# Altium footprint library PcbLib.PcbLib: 5 footprints
Each footprint in its own frame and in the unit in brackets; x right, y up, seen from the top. Pads: shape width x height; smd on the part's side, far side on the other; paste and mask are expansions set on the pad; w line width, h text height; cw(c..) or ccw(c..) is an arc to the next point about the centre after c.
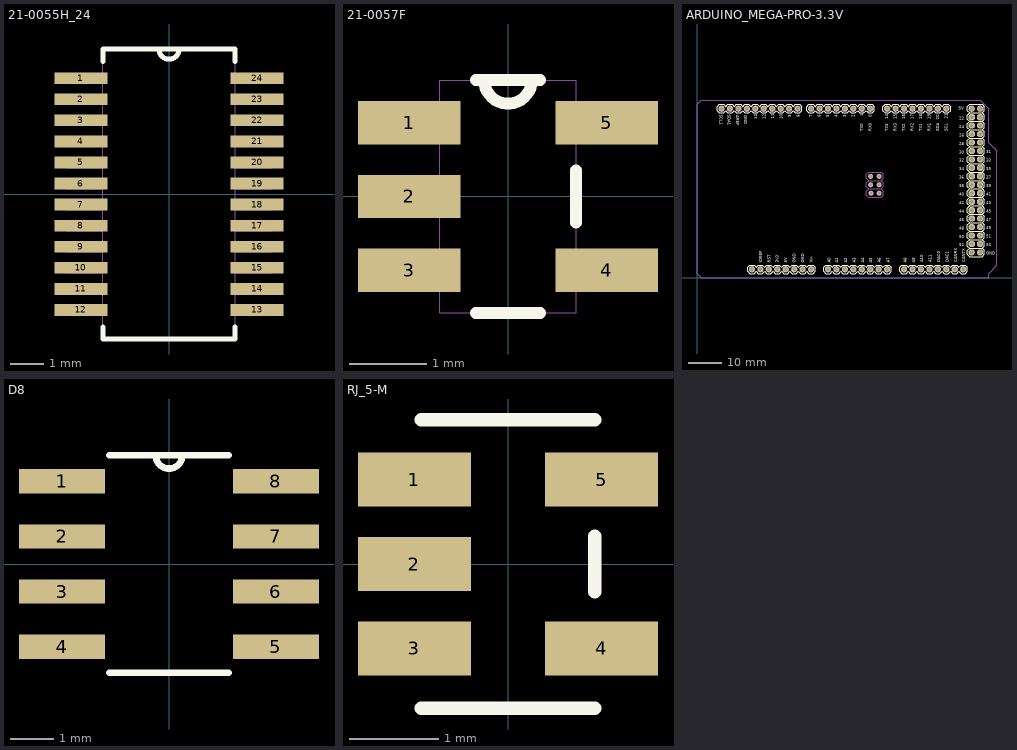
[diagram p0: the footprints below, top view; thin cyan lines are the x and y axes]

## 21-0055H_24 [mil]
pads (24):
  rect 63x14 smd: 1(-104.5,137.5) 2(-104.5,112.5) 3(-104.5,87.5) 4(-104.5,62.5) 5(-104.5,37.5) 6(-104.5,12.5) 7(-104.5,-12.5) 8(-104.5,-37.5) 9(-104.5,-62.5) 10(-104.5,-87.5) 11(-104.5,-112.5) 12(-104.5,-137.5) 13(104.5,-137.5) 14(104.5,-112.5) 15(104.5,-87.5) 16(104.5,-62.5) 17(104.5,-37.5) 18(104.5,-12.5) 19(104.5,12.5) 20(104.5,37.5) 21(104.5,62.5) 22(104.5,87.5) 23(104.5,112.5) 24(104.5,137.5)
Top Overlay:
  lines w6: -78.5,-157.6 -78.5,-172 78.5,-172 78.5,-157.6 ; -78.5,157.6 -78.5,172 78.5,172 78.5,157.6 ; -12,172 ccw(c0,172) 12,172
Mechanical 1:
  lines w0: -12,172 ccw(c0,172) 12,172 ; -122,-143.5 -78.5,-143.5 -78.5,-131.5 -122,-131.5 -122,-143.5 ; -122,-118.5 -78.5,-118.5 -78.5,-106.5 -122,-106.5 -122,-118.5 ; -122,-93.5 -78.5,-93.5 -78.5,-81.5 -122,-81.5 -122,-93.5 ; -122,-68.5 -78.5,-68.5 -78.5,-56.5 -122,-56.5 -122,-68.5 ; -122,-43.5 -78.5,-43.5 -78.5,-31.5 -122,-31.5 -122,-43.5 ; -122,-18.5 -78.5,-18.5 -78.5,-6.5 -122,-6.5 -122,-18.5 ; -122,6.5 -78.5,6.5 -78.5,18.5 -122,18.5 -122,6.5 ; -122,31.5 -78.5,31.5 -78.5,43.5 -122,43.5 -122,31.5 ; -122,56.5 -78.5,56.5 -78.5,68.5 -122,68.5 -122,56.5 ; -122,81.5 -78.5,81.5 -78.5,93.5 -122,93.5 -122,81.5 ; -122,106.5 -78.5,106.5 -78.5,118.5 -122,118.5 -122,106.5 ; -122,131.5 -78.5,131.5 -78.5,143.5 -122,143.5 -122,131.5 ; -78.5,-172 -78.5,172 78.5,172 78.5,-172 -78.5,-172 ; 78.5,-143.5 122,-143.5 122,-131.5 78.5,-131.5 78.5,-143.5 ; 78.5,-118.5 122,-118.5 122,-106.5 78.5,-106.5 78.5,-118.5 ; 78.5,-93.5 122,-93.5 122,-81.5 78.5,-81.5 78.5,-93.5 ; 78.5,-68.5 122,-68.5 122,-56.5 78.5,-56.5 78.5,-68.5 ; 78.5,-43.5 122,-43.5 122,-31.5 78.5,-31.5 78.5,-43.5 ; 78.5,-18.5 122,-18.5 122,-6.5 78.5,-6.5 78.5,-18.5 ; 78.5,6.5 122,6.5 122,18.5 78.5,18.5 78.5,6.5 ; 78.5,31.5 122,31.5 122,43.5 78.5,43.5 78.5,31.5 ; 78.5,56.5 122,56.5 122,68.5 78.5,68.5 78.5,56.5 ; 78.5,81.5 122,81.5 122,93.5 78.5,93.5 78.5,81.5 ; 78.5,106.5 122,106.5 122,118.5 78.5,118.5 78.5,106.5 ; 78.5,131.5 122,131.5 122,143.5 78.5,143.5 78.5,131.5
3D body: height 68.9, standoff 0, extent -119.21,-172 119.21,172.1

## 21-0057F [mil]
pads (5):
  rect 52x22 smd: 1(-50,37.4) 2(-50,0) 3(-50,-37.4) 4(50,-37.4) 5(50,37.4)
Top Overlay:
  lines w6: -16.3,-59 16.3,-59 ; -16.3,59 16.3,59 ; -12,59 ccw(c0,59) 12,59 ; 34.5,-13.3 34.5,13.3
Mechanical 1:
  lines w0: -12,59 ccw(c0,59) 12,59 ; -59,-47.4 -34.5,-47.4 -34.5,-27.4 -59,-27.4 -59,-47.4 ; -59,-10 -34.5,-10 -34.5,10 -59,10 -59,-10 ; -59,27.4 -34.5,27.4 -34.5,47.4 -59,47.4 -59,27.4 ; -34.5,-59 -34.5,59 34.5,59 34.5,-59 -34.5,-59 ; 34.5,-47.4 59,-47.4 59,-27.4 34.5,-27.4 34.5,-47.4 ; 34.5,27.4 59,27.4 59,47.4 34.5,47.4 34.5,27.4
3D body: height 57.09, standoff 0, extent -55.11,-57.09 55.12,57.09

## ARDUINO_MEGA-PRO-3.3V [mil]
pads (92):
  round 74 hole 40: 0(2050,2000) 1(1950,2000) 2(1850,2000) 3(1750,2000) 3.3V(950,100) 4(1650,2000) 5(1550,2000) 5V@0(1050,100) 5V@1(3250,2000) 5V@2(3350,2000) 6(1450,2000) 7(1350,2000) 8(1190,2000) 9(1090,2000) 10(990,2000) 11(890,2000) 12(790,2000) 13(690,2000) 14(2250,2000) 15(2350,2000) 16(2450,2000) 17(2550,2000) 18(2650,2000) 19(2750,2000) 20(2850,2000) 21(2950,2000) A0(1550,100) A1(1650,100) A2(1750,100) A3(1850,100) A4(1950,100) A5(2050,100) A6(2150,100) A7(2250,100) A8(2450,100) A9(2550,100) A10(2650,100) A11(2750,100) A12(2850,100) A13(2950,100) A14(3050,100) A15(3150,100) AREF(490,2000) GND@0(1150,100) GND@1(1250,100) GND@2(3250,300) GND@3(3350,300) GND@4(590,2000) IOREF(750,100) RESET(850,100) SCL1(290,2000) SDA1(390,2000) VIN(1350,100) ""(650,100)
  round 60 hole 30: 5V@3(2155,1200) GND@5(2155,1000) MISO(2055,1200) MOSI(2155,1100) RST(2060,1000) SCLK(2055,1100)
  oct 74x74 hole 40: 22(3250,1900) 23(3350,1900) 24(3250,1800) 25(3350,1800) 26(3250,1700) 27(3350,1700) 28(3250,1600) 29(3350,1600) 30(3250,1500) 31(3350,1500) 32(3250,1400) 33(3350,1400) 34(3250,1300) 35(3350,1300) 36(3250,1200) 37(3350,1200) 38(3250,1100) 39(3350,1100) 40(3250,1000) 41(3350,1000) 42(3250,900) 43(3350,900) 44(3250,800) 45(3350,800) 46(3250,700) 47(3350,700) 48(3250,600) 49(3350,600) 50(3250,500) 51(3350,500) 52(3250,400) 53(3350,400)
Top Overlay:
  drawing of 439 lines, arcs and shapes, not listed
  text "IOREF" at 770,180 h35
  text "5V" at 3100,1985 h35
  text "AREF" at 465,1925 h35
  text "GND" at 560,1925 h35
  text "Vin" at 1370,180 h35
  text "GND" at 1270,180 h35
  text "GND" at 1170,180 h35
  text "5V" at 1070,180 h35
  text "3V3" at 970,180 h35
  text "RST" at 870,180 h35
  text "SCL" at 2965,1735 h34
  text "SDA" at 2865,1735 h34
  text "RX1" at 2765,1735 h34
  text "TX1" at 2665,1735 h34
  text "RX2" at 2565,1735 h34
  text "TX2" at 2465,1735 h34
  text "RX3" at 2365,1735 h34
  text "TX3" at 2265,1735 h34
  text "RX0" at 2065,1735 h34
  text "TX0" at 1965,1735 h34
  text "GND" at 3424.1,271 h34
  text "CANTX" at 3175,181 h35
  text "CANRX" at 3080,181 h35
  text "DAC1" at 2980,181 h35
  text "DAC0" at 2880,181 h35
  text "A11" at 2780,181 h35
  text "A10" at 2680,181 h35
  text "A9" at 2580,180 h35
  text "A8" at 2480,180 h35
  text "A7" at 2280,180 h35
  text "A6" at 2175,180 h35
  text "A5" at 2075,180 h35
  text "A4" at 1980,180 h35
  text "A3" at 1880,180 h35
  text "A2" at 1780,180 h35
  text "A1" at 1670,180 h35
  text "A0" at 1580,180 h35
  text "53" at 3425,371 h35
  text "51" at 3425,471 h35
  text "49" at 3425,571 h35
  text "47" at 3425,671 h35
  text "45" at 3425,771 h35
  text "43" at 3425,871 h35
  text "41" at 3425,971 h35
  text "39" at 3425,1071 h35
  text "37" at 3425,1171 h35
  text "35" at 3425,1271 h35
  text "33" at 3425,1371 h35
  text "31" at 3425,1471 h35
  text "52" at 3106,370 h35
  text "48" at 3106,570 h35
  text "50" at 3106,470 h35
  text "46" at 3106,670 h35
  text "44" at 3106,770 h35
  text "42" at 3106,870 h35
  text "40" at 3106,970 h35
  text "38" at 3106,1070 h35
  text "36" at 3106,1170 h35
  text "34" at 3106,1270 h35
  text "32" at 3106,1370 h35
  text "30" at 3106,1470 h35
  text "28" at 3106,1570 h35
  text "26" at 3106,1670 h35
  text "24" at 3106,1770 h35
  text "22" at 3106,1870 h35
  text "21" at 2965,1878.35 h35
  text "20" at 2865,1866.69 h35
  text "19" at 2765,1872.52 h35
  text "18" at 2665,1872.52 h35
  text "17" at 2565,1872.52 h35
  text "16" at 2465,1872.52 h35
  text "15" at 2365,1872.52 h35
  text "14" at 2265,1872.52 h35
  text "13" at 715,1872.52 h35
  text "12" at 815,1872.52 h35
  text "11" at 915,1884.18 h35
  text "10" at 1015,1872.52 h35
  text "9" at 1115,1901.67 h35
  text "8" at 1215,1901.67 h35
  text "7" at 1365,1901.67 h35
  text "6" at 1465,1901.67 h35
  text "5" at 1565,1901.67 h35
  text "4" at 1665,1901.67 h35
  text "3" at 1765,1901.67 h35
  text "2" at 1865,1901.67 h35
  text "1" at 1965,1913.34 h35
  text "0" at 2065,1901.67 h35
  text "SDA1" at 365,1930 h35
  text "SCL1" at 270,1930 h35
Mechanical 16:
  rectangle: 840,90 860,110
  rectangle: 940,90 960,110
  rectangle: 1040,90 1060,110
  rectangle: 1140,90 1160,110
  rectangle: 1240,90 1260,110
  rectangle: 1340,90 1360,110
  rectangle: 3240,1990 3260,2010
  rectangle: 3340,1990 3360,2010
  rectangle: 3240,290 3260,310
  rectangle: 3340,290 3360,310
  region: 3360,1090 3360,1110 3340,1110 3340,1090
  region: 3260,1090 3260,1110 3240,1110 3240,1090
  region: 3360,990 3360,1010 3340,1010 3340,990
  region: 3260,990 3260,1010 3240,1010 3240,990
  region: 3360,890 3360,910 3340,910 3340,890
  region: 3360,790 3360,810 3340,810 3340,790
  region: 3360,690 3360,710 3340,710 3340,690
  region: 3260,890 3260,910 3240,910 3240,890
  region: 3260,790 3260,810 3240,810 3240,790
  region: 3260,690 3260,710 3240,710 3240,690
  region: 3360,590 3360,610 3340,610 3340,590
  region: 3260,590 3260,610 3240,610 3240,590
  region: 3360,490 3360,510 3340,510 3340,490
  region: 3260,490 3260,510 3240,510 3240,490
  region: 3260,390 3260,410 3240,410 3240,390
  region: 3360,390 3360,410 3340,410 3340,390
  region: 3360,1890 3360,1910 3340,1910 3340,1890
  region: 3260,1890 3260,1910 3240,1910 3240,1890
  region: 3360,1790 3360,1810 3340,1810 3340,1790
  region: 3260,1790 3260,1810 3240,1810 3240,1790
  region: 3360,1690 3360,1710 3340,1710 3340,1690
  region: 3360,1590 3360,1610 3340,1610 3340,1590
  region: 3360,1490 3360,1510 3340,1510 3340,1490
  region: 3260,1690 3260,1710 3240,1710 3240,1690
  region: 3260,1590 3260,1610 3240,1610 3240,1590
  region: 3260,1490 3260,1510 3240,1510 3240,1490
  region: 3360,1390 3360,1410 3340,1410 3340,1390
  region: 3260,1390 3260,1410 3240,1410 3240,1390
  region: 3360,1290 3360,1310 3340,1310 3340,1290
  region: 3260,1290 3260,1310 3240,1310 3240,1290
  region: 3260,1190 3260,1210 3240,1210 3240,1190
  region: 3360,1190 3360,1210 3340,1210 3340,1190
  region: 2045,1010 2045,990 2065,990 2065,1010
  region: 2145,1010 2145,990 2165,990 2165,1010
  region: 2045,1110 2045,1090 2065,1090 2065,1110
  region: 2145,1110 2145,1090 2165,1090 2165,1110
  region: 2145,1210 2145,1190 2165,1190 2165,1210
  region: 2045,1210 2045,1190 2065,1190 2065,1210
  rectangle: 1180,1990 1200,2010
  rectangle: 480,1990 500,2010
  rectangle: 580,1990 600,2010
  rectangle: 680,1990 700,2010
  rectangle: 780,1990 800,2010
  rectangle: 880,1990 900,2010
  rectangle: 980,1990 1000,2010
  rectangle: 1080,1990 1100,2010
  rectangle: 2040,1990 2060,2010
  rectangle: 1340,1990 1360,2010
  rectangle: 1440,1990 1460,2010
  rectangle: 1540,1990 1560,2010
  rectangle: 1640,1990 1660,2010
  rectangle: 1740,1990 1760,2010
  rectangle: 1840,1990 1860,2010
  rectangle: 1940,1990 1960,2010
  rectangle: 2240,90 2260,110
  rectangle: 1540,90 1560,110
  rectangle: 1640,90 1660,110
  rectangle: 1740,90 1760,110
  rectangle: 1840,90 1860,110
  rectangle: 1940,90 1960,110
  rectangle: 2040,90 2060,110
  rectangle: 2140,90 2160,110
  rectangle: 2940,1990 2960,2010
  rectangle: 2240,1990 2260,2010
  rectangle: 2340,1990 2360,2010
  rectangle: 2440,1990 2460,2010
  rectangle: 2540,1990 2560,2010
  rectangle: 2640,1990 2660,2010
  rectangle: 2740,1990 2760,2010
  rectangle: 2840,1990 2860,2010
  rectangle: 3140,90 3160,110
  rectangle: 2440,90 2460,110
  rectangle: 2540,90 2560,110
  rectangle: 2640,90 2660,110
  rectangle: 2740,90 2760,110
  rectangle: 2840,90 2860,110
  rectangle: 2940,90 2960,110
  rectangle: 3040,90 3060,110
  lines w8: 2030,1050 2180,1050 ; 2030,1050 2005,1025 2005,975 2030,950 2180,950 2205,975 2205,1025 2180,1050 ; 2030,1050 2005,1075 2005,1125 2030,1150 ; 2030,1150 2180,1150 ; 2030,1150 2005,1175 2005,1225 2030,1250 2180,1250 2205,1225 2205,1175 2180,1150 ; 2180,1050 2205,1075 2205,1125 2180,1150 ; 0,50 0,2050 50,2100 3350,2100 3450,2000 3450,1600 3550,1500 3550,150 3450,50 3450,0 50,0 0,50
3D body: height 107.98, standoff -352.65, extent 2008.15,945 2205,1254.84
3D body: height 97.39, standoff -381, extent 2400.01,50.01 3200.01,150.01
3D body: height 97.39, standoff -381, extent 1500,50 2300,150
3D body: height 97.39, standoff -381, extent 1300,1950 2100,2050
3D body: height 97.39, standoff -381, extent 2200,1950 3000,2050
3D body: height 98.23, standoff -380.12, extent 3200,250 3400,2050
3D body: height 97.39, standoff -381, extent 240.01,1950.01 1240.01,2050.01
3D body: height 97.39, standoff -381, extent 600,50 1400,150

## D8 [mil]
pads (8):
  rect 78x22 smd: 1(-97,75) 2(-97,25) 3(-97,-25) 4(-97,-75) 5(97,-75) 6(97,-25) 7(97,25) 8(97,75)
Top Overlay:
  lines w6: -54.08,-98.5 54.08,-98.5 ; -54.08,98.5 54.08,98.5 ; -12,98.5 ccw(c0,98.5) 12,98.5
3D body: height 57, standoff 0, extent -110,-96.5 117.49,96.5

## RJ_5-M [mil]
pads (5):
  rect 50x24 smd: 1(-41.5,37.4) 2(-41.5,0) 3(-41.5,-37.4) 4(41.5,-37.4) 5(41.5,37.4)
Top Overlay:
  lines w6: -38.5,-64 38.5,-64 ; -38.5,64 38.5,64 ; 38.5,-12.3 38.5,12.3
3D body: height 57.09, standoff 0, extent -60.25,-59.06 60.27,59.06